# EAGLE library part MN3009 (library _mtvl_ic)
256-STAGE LOW NOISE BBD
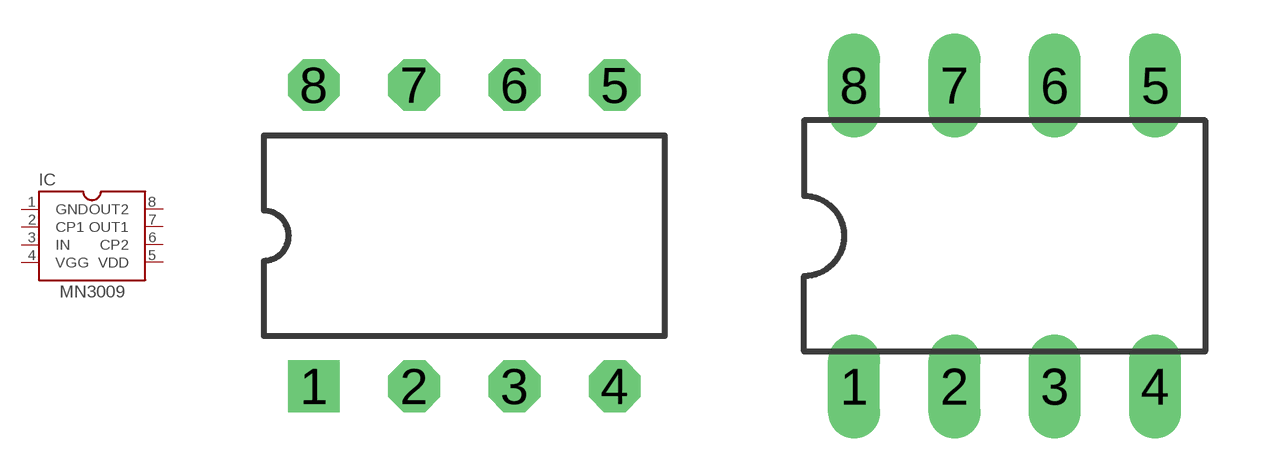
[diagram p57: symbol with the pads of DIL08_; footprints DIL08_, DIL-08]

Designator prefix IC

## MN3009  [DIL08_]
1  GND  sup
2  CP1  in
3  IN  in
4  VGG  sup
5  VDD  sup
6  CP2  in
7  OUT1  out
8  OUT2  out

## MN3009-L  [DIL-08]
Pads as for DIL08_

## Footprint DIL08_ (pad centres in mm)
Dual In Line package type P
drill 0.8 square: 1 -3.81,-3.81
drill 0.8 octagon: 2 -1.27,-3.81; 3 1.27,-3.81; 4 3.81,-3.81; 5 3.81,3.81; 6 1.27,3.81; 7 -1.27,3.81; 8 -3.81,3.81

## Footprint DIL-08 (pad centres in mm)
Dual In Line Package
drill 0.813 long: 1 -3.81,-3.81; 2 -1.27,-3.81; 3 1.27,-3.81; 4 3.81,-3.81; 5 3.81,3.81; 6 1.27,3.81; 7 -1.27,3.81; 8 -3.81,3.81